# Altium footprint library Specialized ICs.PcbLib: 1 footprints
Each footprint in its own frame and in the unit in brackets; x right, y up, seen from the top. Pads: shape width x height; smd on the part's side, far side on the other; paste and mask are expansions set on the pad; w line width, h text height; cw(c..) or ccw(c..) is an arc to the next point about the centre after c.
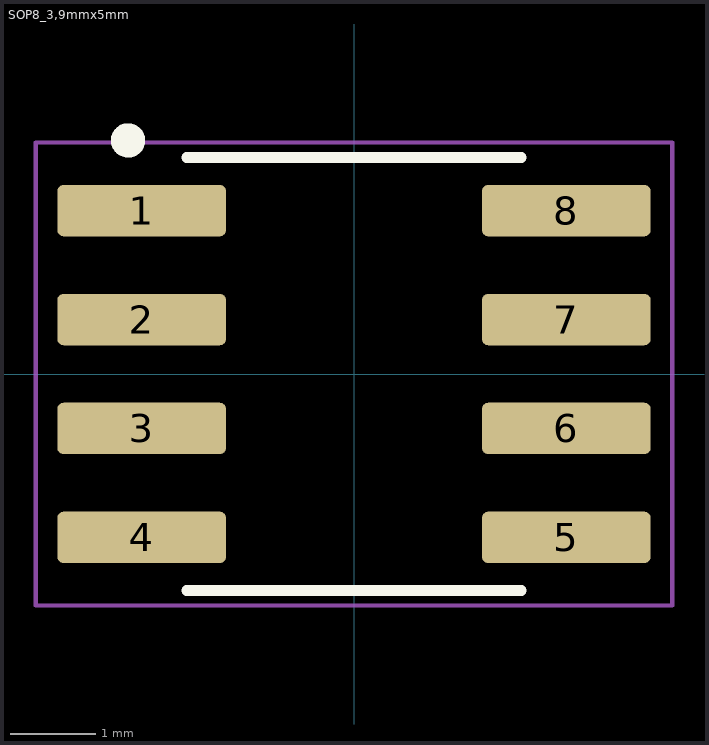
[diagram p0: the footprint, top view; thin cyan lines are the x and y axes]

## SOP8_3,9mmx5mm [mm] "/ 090726 / J.Jaramillo"
pads (8):
  rrect25% 1.97x0.6 smd: 1(-2.475,1.905) 2(-2.475,0.635) 3(-2.475,-0.635) 4(-2.475,-1.905) 5(2.475,-1.905) 6(2.475,-0.635) 7(2.475,0.635) 8(2.475,1.905)
Top Overlay:
  circle w0.2: c-2.635,2.723 r0.1
  lines w0.127: -1.95,-2.525 1.95,-2.525 ; -1.95,2.525 1.95,2.525
Top Solder:
  circle w0.2: c-2.635,2.723 r0.1
Mechanical 15:
  lines w0.05: -3.71,-2.7 -3.71,2.7 3.71,2.7 3.71,-2.7 -3.71,-2.7
3D body "DM2016N.STEP": height 1.75, standoff 0, extent -3,-2.45 3,2.45